# Altium footprint library HLGA-10L.PcbLib: 1 footprints
Each footprint in its own frame and in the unit in brackets; x right, y up, seen from the top. Pads: shape width x height; smd on the part's side, far side on the other; paste and mask are expansions set on the pad; w line width, h text height; cw(c..) or ccw(c..) is an arc to the next point about the centre after c.
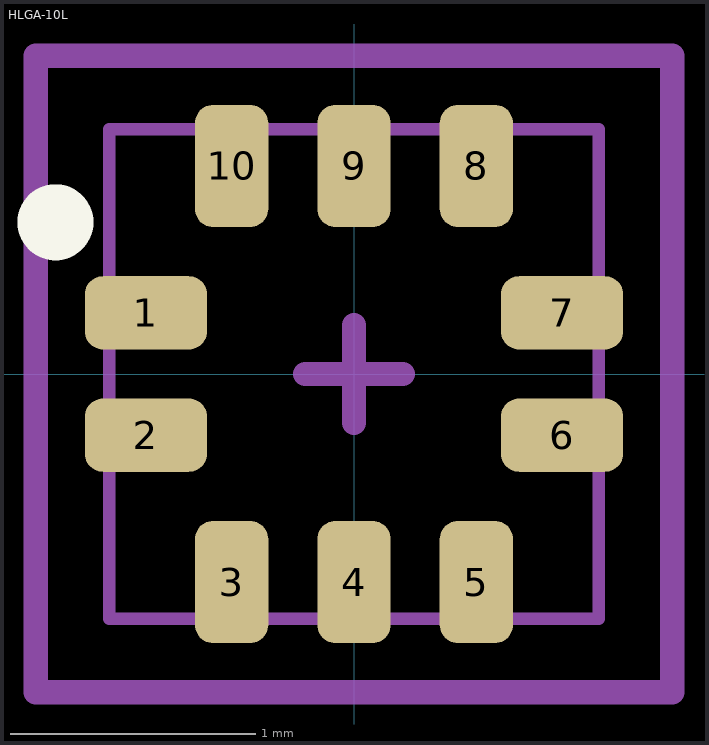
[diagram p0: the footprint, top view; thin cyan lines are the x and y axes]

## HLGA-10L [mm]
pads (10):
  rrect50% 0.5x0.3 smd mask+0.05: 1(-0.85,0.25) 2(-0.85,-0.25) 6(0.85,-0.25) 7(0.85,0.25)
  rrect50% 0.3x0.5 smd mask+0.05: 3(-0.5,-0.85) 4(0,-0.85) 5(0.5,-0.85) 8(0.5,0.85) 9(0,0.85) 10(-0.5,0.85)
Top Overlay:
  circle w0.254: c-1.22,0.62 r0.028
Top Assembly:
  lines w0.05: -1,-1 -1,1 1,1 1,-1 -1,-1
  lines w0.1: -0.2,0 0.2,0 ; 0,-0.2 0,0.2
Top Courtyard:
  lines w0.1: -1.3,-1.3 -1.3,1.3 1.3,1.3 1.3,-1.3 -1.3,-1.3
3D body "User Library-HLGA-10L.step": height 0.81, standoff 0.01, extent -1,-1 1,1